# Altium footprint library PT65506L508.PcbLib: 1 footprints
Each footprint in its own frame and in the unit in brackets; x right, y up, seen from the top. Pads: shape width x height; smd on the part's side, far side on the other; paste and mask are expansions set on the pad; w line width, h text height; cw(c..) or ccw(c..) is an arc to the next point about the centre after c.
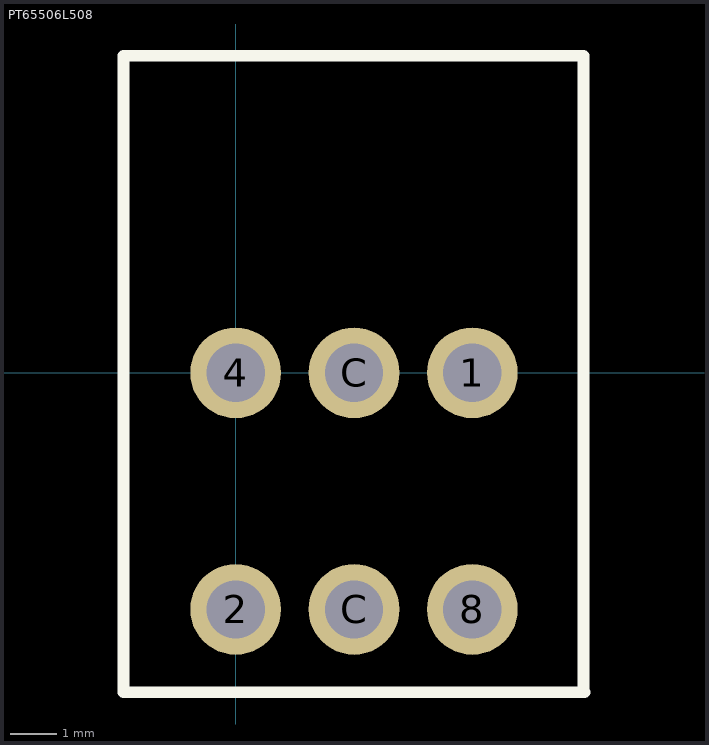
[diagram p0: the footprint, top view; thin cyan lines are the x and y axes]

## PT65506L508 [mm] "Rotary Dip Switch Hexadecimal Complement 16 Position Through Hole, Right Angle Rotary with Knob Actuator 150mA 24VDC"
pads (6):
  round 1.95 hole 1.25: 1(5.08,0) 2(0,-5.08) 4(0,0) 8(5.08,-5.08) C(2.54,-5.08) C(2.54,0)
Top Overlay:
  lines w0.254: -2.413,-6.858 -2.413,6.807 7.468,6.807 7.468,-6.833 7.493,-6.858 -1.651,-6.858 -2.413,-6.858
3D body "PT65101L508--3DModel-STEP-56544.STEP": height 10, standoff -4, extent -2.482,-5.217 7.518,6.883